# Altium schematic symbol library nfc_ant.SchLib: 1 symbol
Pins are listed as number, name and electrical type; pins without a type are passive.

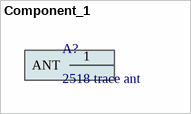
[diagram p0: symbol Component_1]

## Component_1
designator A?, comment 2518 trace ant
footprint NFCANT
pins: 1 ANT